# EAGLE library part TLW-126-06-G-S (library SAMTEC-Txx_By_element14_Batch_1)
LOW PROFILE HEADER
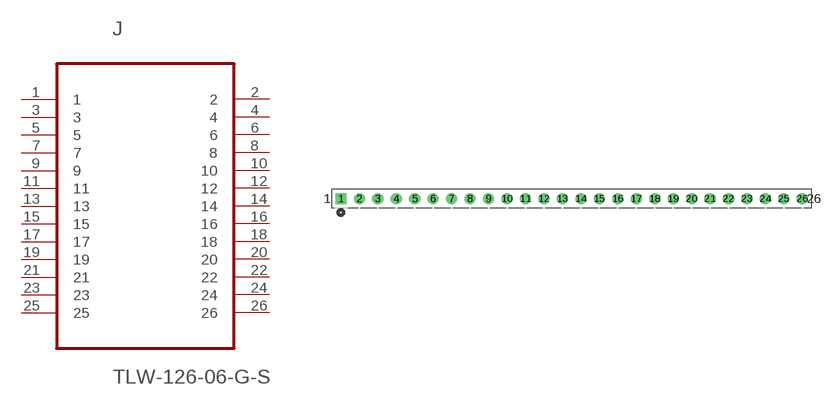
[diagram p313: symbol with the pads of SAMTEC_TLW-126-06-G-S; footprint SAMTEC_TLW-126-06-G-S]

Designator prefix J

## TLW-126-06-G-S (MPN: TLW-126-06-G-S; OC_FARNELL: -; OC_NEWARK: 12P0559; PACKAGE: LOW PROFILE HEADER, SINGLE ROW, 26 way; SUPPLIER: SAMTEC)  [SAMTEC_TLW-126-06-G-S]
1  1  pas
2  2  pas
3  3  pas
4  4  pas
5  5  pas
6  6  pas
7  7  pas
8  8  pas
9  9  pas
10  10  pas
11  11  pas
12  12  pas
13  13  pas
14  14  pas
15  15  pas
16  16  pas
17  17  pas
18  18  pas
19  19  pas
20  20  pas
21  21  pas
22  22  pas
23  23  pas
24  24  pas
25  25  pas
26  26  pas

## Footprint SAMTEC_TLW-126-06-G-S (pad centres in mm)
drill 1.016 square: 1 -63.5,0
drill 1.016: 2 -60.96,0; 3 -58.42,0; 4 -55.88,0; 5 -53.34,0; 6 -50.8,0; 7 -48.26,0; 8 -45.72,0; 9 -43.18,0; 10 -40.64,0; 11 -38.1,0; 12 -35.56,0; 13 -33.02,0; 14 -30.48,0; 15 -27.94,0; 16 -25.4,0; 17 -22.86,0; 18 -20.32,0; 19 -17.78,0; 20 -15.24,0; 21 -12.7,0; 22 -10.16,0; 23 -7.62,0; 24 -5.08,0; 25 -2.54,0; 26 0,0